# Altium footprint library DS1014-14.PcbLib: 1 footprints
Each footprint in its own frame and in the unit in brackets; x right, y up, seen from the top. Pads: shape width x height; smd on the part's side, far side on the other; paste and mask are expansions set on the pad; w line width, h text height; cw(c..) or ccw(c..) is an arc to the next point about the centre after c.
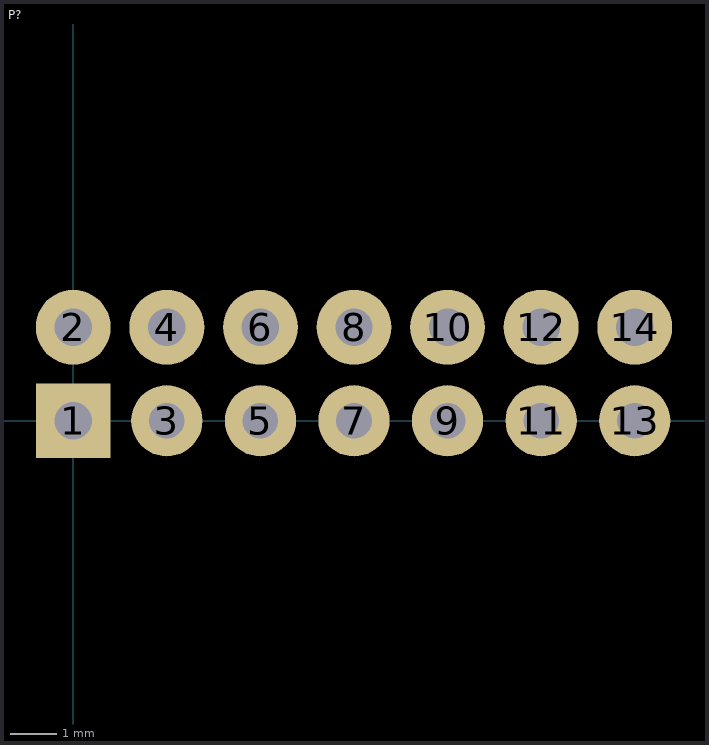
[diagram p0: the footprint, top view; thin cyan lines are the x and y axes]

## P? [mm]
pads (14):
  rect 1.6x1.6 hole 0.8: 1(0,0.004)
  round 1.6 hole 0.8: 2(0,2.004) 4(2,2.004) 6(4,2.004) 8(6,2.004) 10(8,2.004) 12(10,2.004) 14(12,2.004)
  round 1.524 hole 0.762: 3(2,0.004) 5(4,0.004) 7(6,0.004) 9(8,0.004) 11(10,0.004) 13(12,0.004)
3D body "User Library-BH2-14.step": height 5.65, standoff -3.6, extent -4.5,-1.75 16.5,3.7